# EAGLE library part KR1818VG93 (library shock_own)
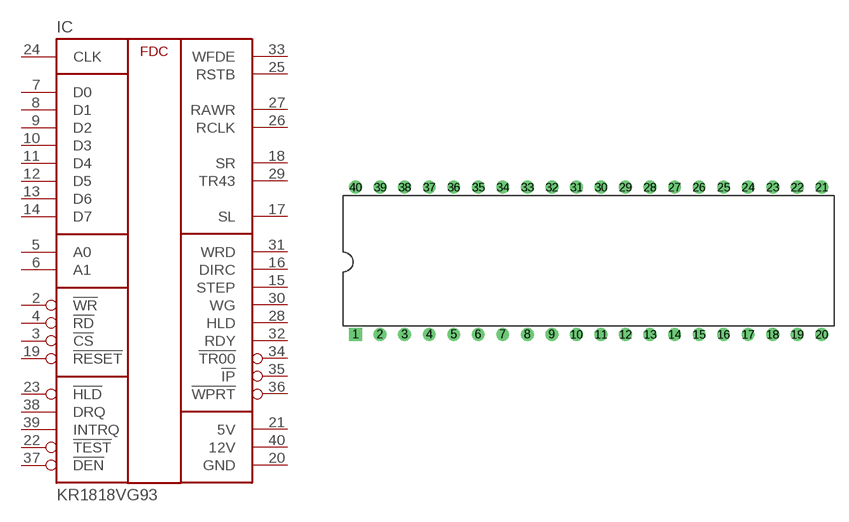
[diagram p2: symbol with the pads of DIP40; footprint DIP40]

Designator prefix IC

## KR1818VG93  [DIP40]
2  !WR
3  !CS
4  !RD
5  A0  in
6  A1  in
7  D0
8  D1
9  D2
10  D3
11  D4
12  D5
13  D6
14  D7
15  STEP
16  DIRC
17  SL
18  SR
19  !RESET
20  GND  pwr
21  5V  pwr
22  !TEST
23  !HLD
24  CLK  in
25  RSTB
26  RCLK
27  RAWR
28  HLD
29  TR43
30  WG
31  WRD
32  RDY
33  WFDE
34  !TR00
35  !IP
36  !WPRT
37  !DEN
38  DRQ
39  INTRQ
40  12V  pwr

## Footprint DIP40 (pad centres in mm)
drill 0.813 square: 1 -24.13,-7.62
drill 0.813: 2 -21.59,-7.62; 3 -19.05,-7.62; 4 -16.51,-7.62; 5 -13.97,-7.62; 6 -11.43,-7.62; 7 -8.89,-7.62; 8 -6.35,-7.62; 9 -3.81,-7.62; 10 -1.27,-7.62; 11 1.27,-7.62; 12 3.81,-7.62; 13 6.35,-7.62; 14 8.89,-7.62; 15 11.43,-7.62; 16 13.97,-7.62; 17 16.51,-7.62; 18 19.05,-7.62; 19 21.59,-7.62; 20 24.13,-7.62; 21 24.13,7.62; 22 21.59,7.62; 23 19.05,7.62; 24 16.51,7.62; 25 13.97,7.62; 26 11.43,7.62; 27 8.89,7.62; 28 6.35,7.62; 29 3.81,7.62; 30 1.27,7.62; 31 -1.27,7.62; 32 -3.81,7.62; 33 -6.35,7.62; 34 -8.89,7.62; 35 -11.43,7.62; 36 -13.97,7.62; 37 -16.51,7.62; 38 -19.05,7.62; 39 -21.59,7.62; 40 -24.13,7.62